# Altium footprint library MIMXRT1021xAFxx核心板V1.1封装库.PcbLib: 1 footprints
Each footprint in its own frame and in the unit in brackets; x right, y up, seen from the top. Pads: shape width x height; smd on the part's side, far side on the other; paste and mask are expansions set on the pad; w line width, h text height; cw(c..) or ccw(c..) is an arc to the next point about the centre after c.
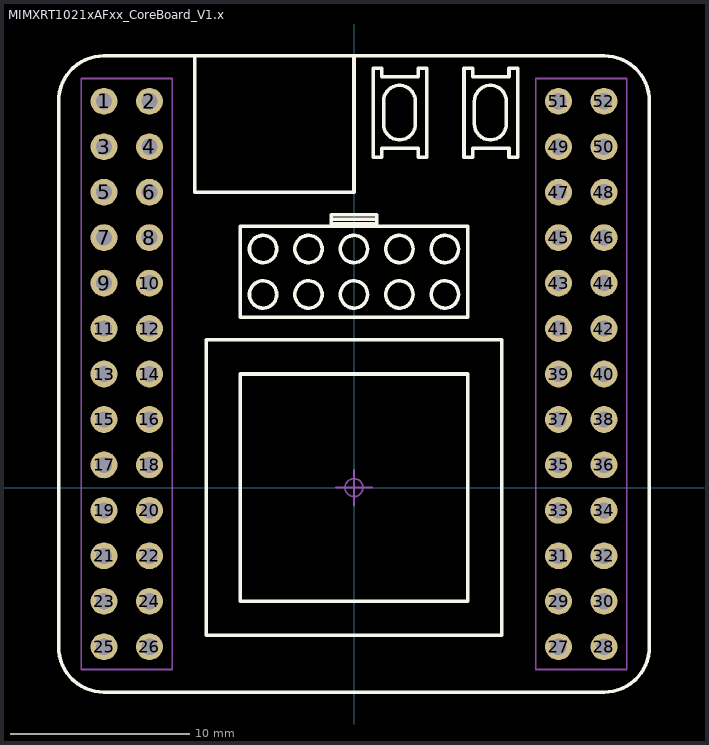
[diagram p0: the footprint, top view; thin cyan lines are the x and y axes]

## MIMXRT1021xAFxx_CoreBoard_V1.x [mm] "逐飞科技i.MX RT1021 100脚核心板V1.x整体原理，可直接使用"
pads (52):
  round 1.5 hole 0.9: 1(-13.97,21.59) 2(-11.43,21.59) 3(-13.97,19.05) 4(-11.43,19.05) 5(-13.97,16.51) 6(-11.43,16.51) 7(-13.97,13.97) 8(-11.43,13.97) 9(-13.97,11.43) 10(-11.43,11.43) 11(-13.97,8.89) 12(-11.43,8.89) 13(-13.97,6.35) 14(-11.43,6.35) 15(-13.97,3.81) 16(-11.43,3.81) 17(-13.97,1.27) 18(-11.43,1.27) 19(-13.97,-1.27) 20(-11.43,-1.27) 21(-13.97,-3.81) 22(-11.43,-3.81) 23(-13.97,-6.35) 24(-11.43,-6.35) 25(-13.97,-8.89) 26(-11.43,-8.89) 27(11.43,-8.89) 28(13.97,-8.89) 29(11.43,-6.35) 30(13.97,-6.35) 31(11.43,-3.81) 32(13.97,-3.81) 33(11.43,-1.27) 34(13.97,-1.27) 35(11.43,1.27) 36(13.97,1.27) 37(11.43,3.81) 38(13.97,3.81) 39(11.43,6.35) 40(13.97,6.35) 41(11.43,8.89) 42(13.97,8.89) 43(11.43,11.43) 44(13.97,11.43) 45(11.43,13.97) 46(13.97,13.97) 47(11.43,16.51) 48(13.97,16.51) 49(11.43,19.05) 50(13.97,19.05) 51(11.43,21.59) 52(13.97,21.59)
Top Overlay:
  circle w0.2: c-5.08,13.335 r0.762
  circle w0.2: c-5.08,10.795 r0.762
  circle w0.2: c-2.54,13.335 r0.762
  circle w0.2: c-2.54,10.795 r0.762
  circle w0.2: c0,13.335 r0.762
  circle w0.2: c2.54,13.335 r0.762
  circle w0.2: c5.08,13.335 r0.762
  circle w0.2: c2.54,10.795 r0.762
  circle w0.2: c5.08,10.795 r0.762
  circle w0.2: c0,10.795 r0.762
  lines w0.2: -8.89,24.13 -8.89,16.51 0,16.51 0,24.13 ; -1.27,14.605 -1.27,15.24 1.27,15.24 1.27,14.605 ; -1.27,14.732 1.27,14.732 ; -1.27,14.986 1.27,14.986 ; -16.51,-8.89 ccw(c-13.97,-8.89) -13.97,-11.43 13.97,-11.43 ccw(c13.97,-8.89) 16.51,-8.89 16.51,21.59 ccw(c13.97,21.59) 13.97,24.13 -13.97,24.13 ccw(c-13.97,21.59) -16.51,21.59 -16.51,-8.89 ; -8.255,-8.255 -8.255,8.255 8.255,8.255 8.255,-8.255 -8.255,-8.255 ; -6.35,-6.35 6.35,-6.35 6.35,6.35 -6.35,6.35 -6.35,-6.35 ; -6.35,9.525 6.35,9.525 6.35,14.605 -6.35,14.605 -6.35,9.525 ; 1.067,18.471 1.551,18.471 1.551,18.955 3.583,18.955 3.583,18.471 4.067,18.471 4.067,18.955 4.067,22.955 4.067,23.439 3.583,23.439 3.583,22.955 1.551,22.955 1.551,23.439 1.067,23.439 1.067,22.955 1.067,18.955 1.067,18.471 ; 1.651,20.32 ccw(c2.54,20.32) 3.429,20.32 3.429,21.59 ccw(c2.54,21.59) 1.651,21.59 1.651,20.32 ; 6.147,18.471 6.631,18.471 6.631,18.955 8.663,18.955 8.663,18.471 9.147,18.471 9.147,18.955 9.147,22.955 9.147,23.439 8.663,23.439 8.663,22.955 6.631,22.955 6.631,23.439 6.147,23.439 6.147,22.955 6.147,18.955 6.147,18.471 ; 6.731,20.32 ccw(c7.62,20.32) 8.509,20.32 8.509,21.59 ccw(c7.62,21.59) 6.731,21.59 6.731,20.32
Top Designator:
  text ".Designator" at -2.25,-0.226 h1
Top Component Outline:
  lines w0.1: -15.24,-10.16 -10.16,-10.16 -10.16,22.86 -15.24,22.86 -15.24,-10.16 ; 10.16,-10.16 10.16,22.86 15.24,22.86 15.24,-10.16 10.16,-10.16
Top Component Center:
  circle w0.1: c0,0 r0.5
  lines w0.1: -1,0 1,0 ; 0,-1 0,1
3D body "2x13.stp": height 8.5, standoff -3.05, extent -15.24,-10.41 -10.16,23.11
3D body "2x13.stp": height 8.5, standoff -3.05, extent 10.16,-10.41 15.24,23.11
3D body "MIMXRT1021xAFxx_CoreBoard.step": height 21.24, standoff 2.55, extent -16.51,-11.43 16.51,24.15